# Altium footprint library pcb_comp.PcbLib: 18 footprints (part 1 of 2)
Each footprint in its own frame and in the unit in brackets; x right, y up, seen from the top. Pads: shape width x height; smd on the part's side, far side on the other; paste and mask are expansions set on the pad; w line width, h text height; cw(c..) or ccw(c..) is an arc to the next point about the centre after c.
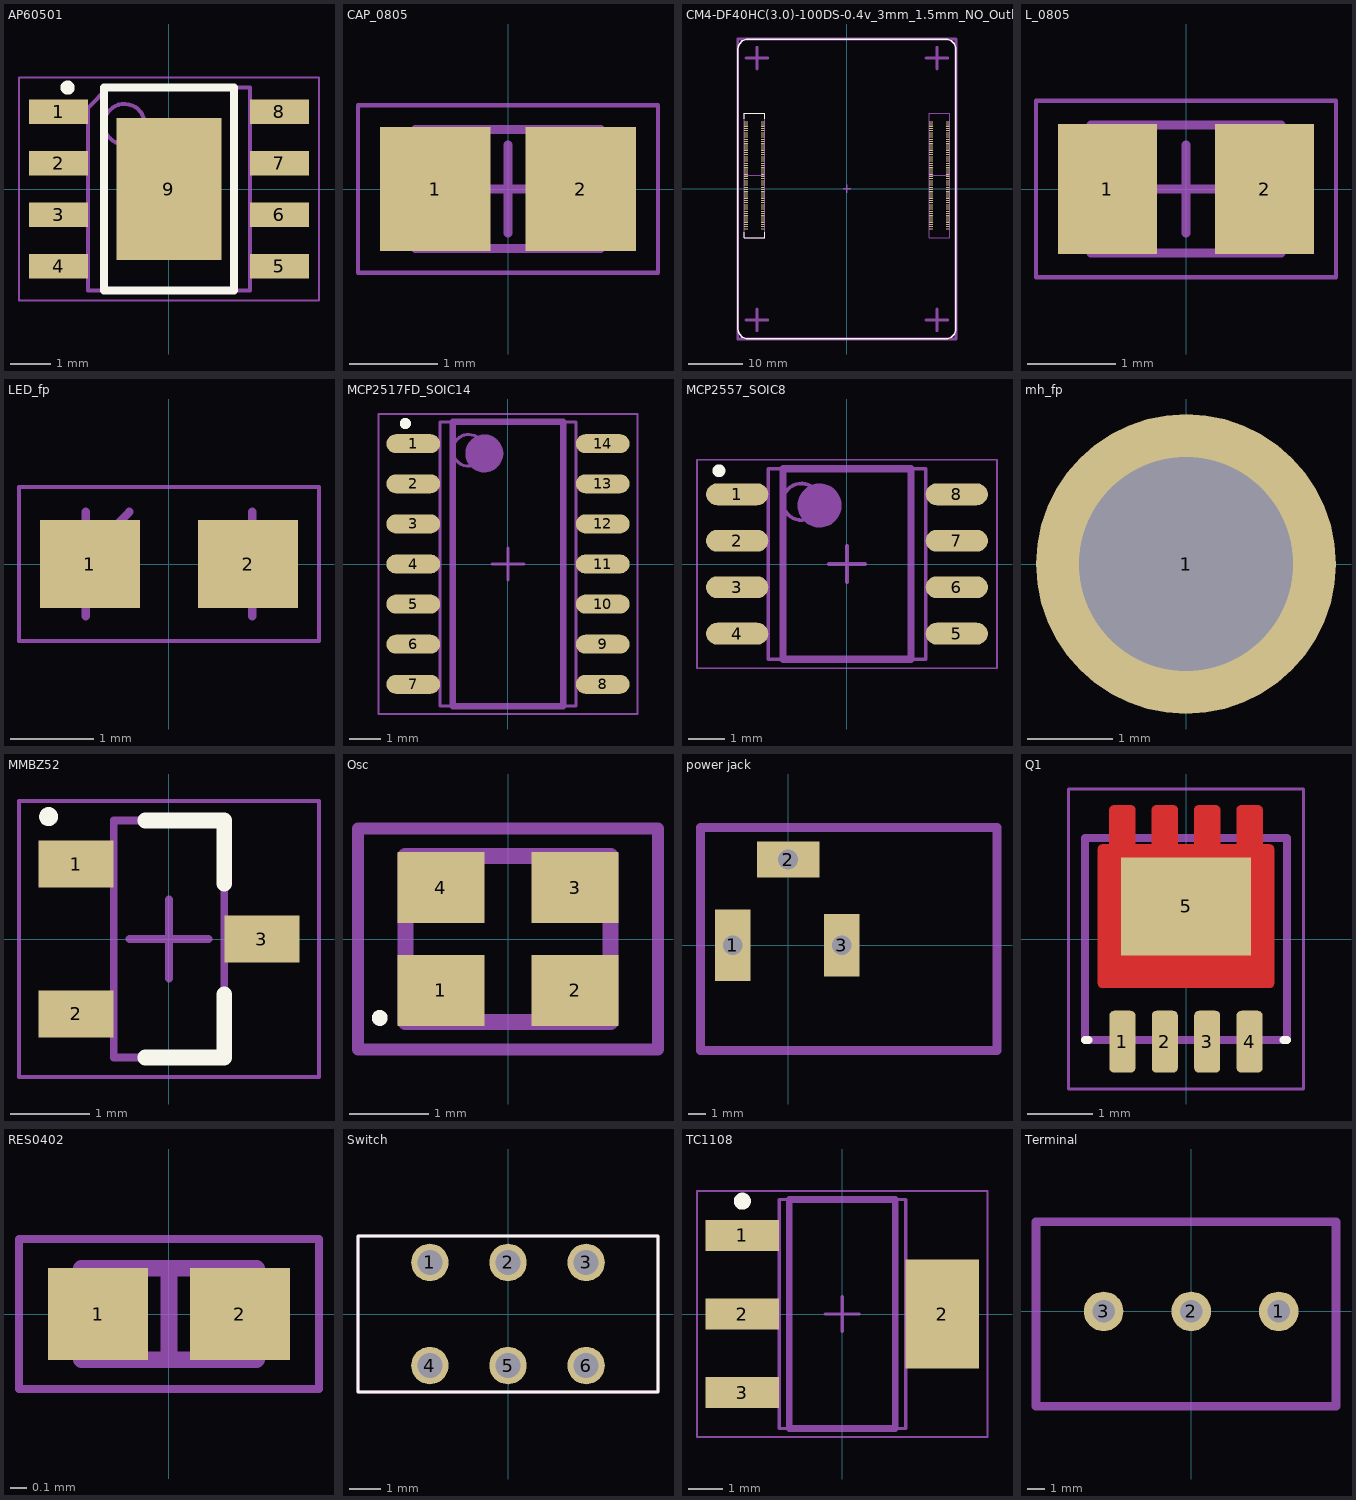
[diagram p0: the footprints below, top view; thin cyan lines are the x and y axes]

## AP60501 [mm]
pads (9):
  rect 1.45x0.6 smd: 1(-2.725,1.905) 2(-2.725,0.635) 3(-2.725,-0.635) 4(-2.725,-1.905) 5(2.725,-1.905) 6(2.725,-0.635) 7(2.725,0.635) 8(2.725,1.905)
  rect 2.6x3.5 smd: 9(0,0)
Top Overlay:
  circle w0.25: c-2.5,2.5 r0.05
  lines w0.2: -1.6,-2.5 1.6,-2.5 1.6,2.5 -1.6,2.5 -1.6,-2.5
Top Component Outline:
  circle w0.1: c-1.1,1.6 r0.5
  lines w0.1: -2,-2.5 2,-2.5 2,2.5 -1.5,2.5 -2,2 -2,-2.5
  text "'.Designator'" at -7.752,-1.087 h1.25
Top Courtyard (Mech15):
  lines w0.05: -3.7,-2.75 3.7,-2.75 3.7,2.75 -3.7,2.75 -3.7,-2.75
  lines w0.1: -0.5,0 0.5,0 ; 0,-0.5 0,0.5
3D body "SO-8L.step": height 1.75, standoff 0, extent -3,-2.5 3,2.5

## CAP_0805 [mm]
height 1.35
pads (2):
  rect 1.25x1.4 smd: 1(-0.825,0) 2(0.825,0)
General Notes:
  lines w0.1: -0.5,0 0.5,0 ; 0,-0.5 0,0.5
Top Assembly:
  lines w0.1: -1.05,-0.675 -1.05,0.675 1.05,0.675 1.05,-0.675 -1.05,-0.675
Top Courtyard (Mech15):
  lines w0.05: -1.7,-0.95 1.7,-0.95 1.7,0.95 -1.7,0.95 -1.7,-0.95
3D body "CAP_0805.step": height 1.35, standoff 0, extent -1.05,-0.675 1.05,0.675

## CM4-DF40HC(3.0)-100DS-0.4v_3mm_1.5mm_NO_Outline-3D [mm] "DF40HC(3.0)-100DS-0.4v by Amornthep Phunsin"
pads (200):
  rect 0.7x0.2 smd: 1(18.5,-7.3) 2(15.42,-7.3) 3(18.5,-6.9) 4(15.42,-6.9) 5(18.5,-6.5) 6(15.42,-6.5) 7(18.5,-6.1) 8(15.42,-6.1) 9(18.5,-5.7) 10(15.42,-5.7) 11(18.5,-5.3) 12(15.42,-5.3) 13(18.5,-4.9) 14(15.42,-4.9) 15(18.5,-4.5) 16(15.42,-4.5) 17(18.5,-4.1) 18(15.42,-4.1) 19(18.5,-3.7) 20(15.42,-3.7) 21(18.5,-3.3) 22(15.42,-3.3) 23(18.5,-2.9) 24(15.42,-2.9) 25(18.5,-2.5) 26(15.42,-2.5) 27(18.5,-2.1) 28(15.42,-2.1) 29(18.5,-1.7) 30(15.42,-1.7) 31(18.5,-1.3) 32(15.42,-1.3) 33(18.5,-0.9) 34(15.42,-0.9) 35(18.5,-0.5) 36(15.42,-0.5) 37(18.5,-0.1) 38(15.42,-0.1) 39(18.5,0.3) 40(15.42,0.3) 41(18.5,0.7) 42(15.42,0.7) 43(18.5,1.1) 44(15.42,1.1) 45(18.5,1.5) 46(15.42,1.5) 47(18.5,1.9) 48(15.42,1.9) 49(18.5,2.3) 50(15.42,2.3) 51(18.5,2.7) 52(15.42,2.7) 53(18.5,3.1) 54(15.42,3.1) 55(18.5,3.5) 56(15.42,3.5) 57(18.5,3.9) 58(15.42,3.9) 59(18.5,4.3) 60(15.42,4.3) 61(18.5,4.7) 62(15.42,4.7) 63(18.5,5.1) 64(15.42,5.1) 65(18.5,5.5) 66(15.42,5.5) 67(18.5,5.9) 68(15.42,5.9) 69(18.5,6.3) 70(15.42,6.3) 71(18.5,6.7) 72(15.42,6.7) 73(18.5,7.1) 74(15.42,7.1) 75(18.5,7.5) 76(15.42,7.5) 77(18.5,7.9) 78(15.42,7.9) 79(18.5,8.3) 80(15.42,8.3) 81(18.5,8.7) 82(15.42,8.7) 83(18.5,9.1) 84(15.42,9.1) 85(18.5,9.5) 86(15.42,9.5) 87(18.5,9.9) 88(15.42,9.9) 89(18.5,10.3) 90(15.42,10.3) 91(18.5,10.7) 92(15.42,10.7) 93(18.5,11.1) 94(15.42,11.1) 95(18.5,11.5) 96(15.42,11.5) 97(18.5,11.9) 98(15.42,11.9) 99(18.5,12.3) 100(15.42,12.3) 101(-15.42,-7.3) 102(-18.5,-7.3) 103(-15.42,-6.9) 104(-18.5,-6.9) 105(-15.42,-6.5) 106(-18.5,-6.5) 107(-15.42,-6.1) 108(-18.5,-6.1) 109(-15.42,-5.7) 110(-18.5,-5.7) 111(-15.42,-5.3) 112(-18.5,-5.3) 113(-15.42,-4.9) 114(-18.5,-4.9) 115(-15.42,-4.5) 116(-18.5,-4.5) 117(-15.42,-4.1) 118(-18.5,-4.1) 119(-15.42,-3.7) 120(-18.5,-3.7) 121(-15.42,-3.3) 122(-18.5,-3.3) 123(-15.42,-2.9) 124(-18.5,-2.9) 125(-15.42,-2.5) 126(-18.5,-2.5) 127(-15.42,-2.1) 128(-18.5,-2.1) 129(-15.42,-1.7) 130(-18.5,-1.7) 131(-15.42,-1.3) 132(-18.5,-1.3) 133(-15.42,-0.9) 134(-18.5,-0.9) 135(-15.42,-0.5) 136(-18.5,-0.5) 137(-15.42,-0.1) 138(-18.5,-0.1) 139(-15.42,0.3) 140(-18.5,0.3) 141(-15.42,0.7) 142(-18.5,0.7) 143(-15.42,1.1) 144(-18.5,1.1) 145(-15.42,1.5) 146(-18.5,1.5) 147(-15.42,1.9) 148(-18.5,1.9) 149(-15.42,2.3) 150(-18.5,2.3) 151(-15.42,2.7) 152(-18.5,2.7) 153(-15.42,3.1) 154(-18.5,3.1) 155(-15.42,3.5) 156(-18.5,3.5) 157(-15.42,3.9) 158(-18.5,3.9) 159(-15.42,4.3) 160(-18.5,4.3) 161(-15.42,4.7) 162(-18.5,4.7) 163(-15.42,5.1) 164(-18.5,5.1) 165(-15.42,5.5) 166(-18.5,5.5) 167(-15.42,5.9) 168(-18.5,5.9) 169(-15.42,6.3) 170(-18.5,6.3) 171(-15.42,6.7) 172(-18.5,6.7) 173(-15.42,7.1) 174(-18.5,7.1) 175(-15.42,7.5) 176(-18.5,7.5) 177(-15.42,7.9) 178(-18.5,7.9) 179(-15.42,8.3) 180(-18.5,8.3) 181(-15.42,8.7) 182(-18.5,8.7) 183(-15.42,9.1) 184(-18.5,9.1) 185(-15.42,9.5) 186(-18.5,9.5) 187(-15.42,9.9) 188(-18.5,9.9) 189(-15.42,10.3) 190(-18.5,10.3) 191(-15.42,10.7) 192(-18.5,10.7) 193(-15.42,11.1) 194(-18.5,11.1) 195(-15.42,11.5) 196(-18.5,11.5) 197(-15.42,11.9) 198(-18.5,11.9) 199(-15.42,12.3) 200(-18.5,12.3)
Top Overlay:
  lines w0.12: -18.85,-7.9 -18.85,-8.9 -15.07,-8.9 -15.07,-7.9 ; -18.85,12.9 -18.85,13.9 -15.07,13.9 -15.07,12.9 ; 20.042,13.5 20.042,14.5
  lines w0.254: -20.008,-25.5 ccw(c-18.008,-25.5) -18.008,-27.5 17.992,-27.5 ccw(c17.992,-25.5) 19.992,-25.5 19.992,25.5 ccw(c17.992,25.5) 17.992,27.5 -18.008,27.5 ccw(c-18.008,25.5) -20.008,25.5 -20.008,-25.5
Mechanical 4:
  lines w0.12: -18.85,-8.9 -15.07,-8.9 ; -18.85,-8.9 -18.85,13.9 ; -18.85,-8.9 -15.07,-8.9 ; -18.85,-8.9 -18.85,13.9 ; -18.85,13.9 -15.07,13.9 ; -18.85,13.9 -15.07,13.9 ; -15.07,-8.9 -15.07,13.9 ; -15.07,-8.9 -15.07,13.9 ; 15.07,-8.9 15.07,13.9 ; 15.07,-8.9 18.85,-8.9 ; 15.07,-8.9 15.07,13.9 ; 15.07,-8.9 18.85,-8.9 ; 15.07,13.9 18.85,13.9 ; 15.07,13.9 18.85,13.9 ; 18.85,-8.9 18.85,13.9 ; 18.85,-8.9 18.85,13.9 ; -18.83,2.5 -15.05,2.5 -18.83,2.5 ; 15.07,2.5 18.85,2.5 15.07,2.5
  lines w0.254: -0.7,0 0.7,0 -0.7,0 ; 0,-0.7 0,0.8 0,-0.7
  lines w0.5: -18.5,-24 -16.5,-24 ; -18.5,24 -16.5,24 ; -16.5,-26 -16.5,-24 ; -16.5,-22 -16.5,-24 ; -16.5,22 -16.5,24 ; -16.5,26 -16.5,24 ; -14.5,-24 -16.5,-24 ; -14.5,24 -16.5,24 ; 14.5,-24 16.5,-24 ; 14.5,24 16.5,24 ; 16.5,-26 16.5,-24 ; 16.5,-22 16.5,-24 ; 16.5,22 16.5,24 ; 16.5,26 16.5,24 ; 18.5,-24 16.5,-24 ; 18.5,24 16.5,24
Top Courtyard (Mech15):
  lines w0.5: -20,-27.5 -20,27.5 20,27.5 20,-27.5 -20,-27.5
3D body "DF40HC(3.0)-100DS-0.4V.stp": height 2.9, standoff 0, extent -18.69,-8.785 -15.31,13.815
3D body "DF40HC(3.0)-100DS-0.4V.stp": height 2.9, standoff 0, extent 15.31,-8.785 18.69,13.815

## L_0805 [mm]
height 1.1
pads (2):
  rect 1.12x1.47 smd: 1(-0.89,0) 2(0.89,0)
General Notes:
  lines w0.1: -0.5,0 0.5,0 ; 0,-0.5 0,0.5
Top Assembly:
  lines w0.1: -1.075,-0.725 -1.075,0.725 1.075,0.725 1.075,-0.725 -1.075,-0.725
Top Courtyard (Mech15):
  lines w0.05: -1.7,-1 -1.7,1 1.7,1 1.7,-1 -1.7,-1
3D body "L_0805.step": height 1.1, standoff 0, extent -1.075,-0.725 1.075,0.725

## LED_fp [mm] "https://ro.farnell.com/wurth-elektronik/150080gs75000/led-0805-green-450mcd-520nm/dp/2322076?gross_price=true&CMP=KNC-GRO-GEN-SHOPPING-PMax_Test_840_MediumMargin&mckv=_dc%7Cpcrid%7C%7Cplid%7C%7Ckword%7C%7Cmatch%7C%7Cslid%7C%7Cproduct%7C2322076%7Cpgrid%7C%7Cptaid%7C%7C&gad_source=1&gclid=Cj0KCQjwjLGyBhCYARIsAPqTz18Amj4u5qMw452dzp4QFbvRWjaA25yZdq1iP5S9VaglDibMucql-VwaApB3EALw_wcB"
pads (2):
  rect 1.2x1.05 smd: 1(-0.95,0) 2(0.95,0)
Top Component Outline:
  lines w0.1: -1,-0.625 -1,0.625 ; -1,0.1 -0.475,0.625 ; 1,-0.625 1,0.625
Top Courtyard (Mech15):
  lines w0.05: -1.8,-0.925 -1.8,0.925 1.8,0.925 1.8,-0.925 -1.8,-0.925
3D body "150080GS75000.stp": height 0.7, standoff 0, extent -1,-0.625 1,0.625

## MCP2517FD_SOIC14 [mm] "SOIC, 14-Leads, Body 8.65x3.90mm, Pitch 1.27mm, IPC Medium Density"
height 1.75
pads (14):
  oval 1.7x0.6 smd: 1(-3,3.81) 2(-3,2.54) 3(-3,1.27) 4(-3,0) 5(-3,-1.27) 6(-3,-2.54) 7(-3,-3.81) 8(3,-3.81) 9(3,-2.54) 10(3,-1.27) 11(3,0) 12(3,1.27) 13(3,2.54) 14(3,3.81)
Top Overlay:
  circle w0.25: c-3.25,4.45 r0.05
General Notes:
  circle w0.6: c-0.75,3.5 r0.3
  lines w0.1: -0.5,0 0.5,0 ; 0,-0.5 0,0.5
  lines w0.2: -1.75,-4.5 -1.75,4.5 1.75,4.5 1.75,-4.5 -1.75,-4.5
Top Assembly:
  circle w0.1: c-1.25,3.6 r0.5
  lines w0.1: -2.15,-4.5 2.15,-4.5 2.15,4.5 -2.15,4.5 -2.15,-4.5
Top Courtyard (Mech15):
  lines w0.05: -4.1,-4.75 4.1,-4.75 4.1,4.75 -4.1,4.75 -4.1,-4.75
3D body "MCP2517FD_SOIC14.step": height 1.75, standoff 0.02, extent -2.96,-4.5 2.96,4.5

## MCP2557_SOIC8 [mm]
height 1.75
pads (8):
  oval 1.7x0.6 smd: 1(-3,1.905) 2(-3,0.635) 3(-3,-0.635) 4(-3,-1.905) 5(3,-1.905) 6(3,-0.635) 7(3,0.635) 8(3,1.905)
Top Overlay:
  circle w0.25: c-3.5,2.55 r0.05
General Notes:
  circle w0.6: c-0.75,1.6 r0.3
  lines w0.1: -0.5,0 0.5,0 ; 0,-0.5 0,0.5
  lines w0.2: -1.75,-2.6 -1.75,2.6 1.75,2.6 1.75,-2.6 -1.75,-2.6
Top Assembly:
  circle w0.1: c-1.25,1.7 r0.5
  lines w0.1: -2.15,-2.6 2.15,-2.6 2.15,2.6 -2.15,2.6 -2.15,-2.6
Top Courtyard (Mech15):
  lines w0.05: -4.1,-2.85 4.1,-2.85 4.1,2.85 -4.1,2.85 -4.1,-2.85
3D body "MCP2557_SOIC8.step": height 1.75, standoff 0, extent -3.25,-2.6 3.25,2.6

## mh_fp [mm]
pads (1):
  round 3.5 hole 2.5: 1(0,0)

## MMBZ52 [mm]
height 1.1
pads (3):
  rect 0.95x0.6 smd: 1(-1.175,0.95) 2(-1.175,-0.95) 3(1.175,0)
Top Overlay:
  circle w0.14: c-1.525,1.55 r0.05
  lines w0.2: -0.3,-1.5 0.7,-1.5 0.7,-0.7 ; -0.3,1.5 0.7,1.5 0.7,0.7
General Notes:
  lines w0.1: -0.5,0 0.5,0 ; 0,-0.5 0,0.5
Top Assembly:
  lines w0.1: -0.7,-1.5 -0.7,1.5 0.7,1.5 0.7,-1.5 -0.7,-1.5
Top Courtyard (Mech15):
  lines w0.05: -1.9,-1.75 -1.9,1.75 1.9,1.75 1.9,-1.75 -1.9,-1.75
3D body "MMBZ52.step": height 1.1, standoff 0, extent -1.3,-1.5 1.3,1.5

## Osc [mm]
pads (4):
  rect 1.1x0.9 smd: 1(-0.85,-0.65) 2(0.85,-0.65) 3(0.85,0.65) 4(-0.85,0.65)
Top Overlay:
  circle w0.1: c-1.625,-1 r0.05
General Notes:
  lines w0.2: -1.3,-1.05 -1.3,1.05 1.3,1.05 1.3,-1.05 -1.3,-1.05
Top Courtyard (Mech15):
  lines w0.15: -1.9,-1.4 -1.9,1.4 1.9,1.4 1.9,-1.4 -1.9,-1.4
3D body "SG-210STF 40.0000ML3 (1).STEP": height 0.9, standoff 0, extent -1.25,-1 1.25,1

## power jack [mm]
pads (3):
  rect 2x4 hole 1.1 square: 1(-3.1,0)
  rect 3.5x2 hole 1.1 square: 2(0,4.8)
  rect 2x3.5 hole 1.1 square: 3(3,0)
Top Courtyard (Mech15):
  lines w0.5: -4.9,-5.9 11.7,-5.9 11.7,6.6 -4.9,6.6 -4.9,-5.9
3D body "DC_Power_Jack_PCB_Mounted_2.1mm.step": height 11, standoff -4.1, extent -3.55,-4.575 10.65,4.875

## Q1 [mm]
pads (6):
  rrect37% 0.4x0.95 smd: 1(-0.975,-1.575) 2(-0.325,-1.575) 3(0.325,-1.575) 4(0.975,-1.575)
  rect 2x1.5 smd: 5(0,0.5)
  rect 0.1x0.1 smd paste-1 mask+0: 5_8(0,0)
Top Layer:
  region: 356 vertices and 0 holes, not listed, extent -1.35,-0.75 1.35,2.05
Top Overlay:
  lines w0.127: -1.55,-1.55 -1.495,-1.55 ; 1.495,-1.55 1.55,-1.55
Top Paste:
  drawing of 8 lines, arcs and shapes, not listed
Top Solder:
  drawing of 1 lines, arcs and shapes, not listed
Top Component Outline:
  lines w0.127: -1.55,-1.55 -1.55,1.55 1.55,1.55 1.55,-1.55 -1.55,-1.55
Top Courtyard (Mech15):
  lines w0.05: -1.8,-2.3 1.8,-2.3 1.8,2.3 -1.8,2.3 -1.8,-2.3
3D body "DMP3013SFV-7--3DModel-STEP-510211.STEP": height -0.38, standoff -1.23, extent -1.65,-1.65 1.65,1.65

## RES0402 [mm] "Chip Resistor, 2-Leads, Body 1.00x0.50mm, IPC Medium Density"
height 0.4
pads (2):
  rect 0.6x0.55 smd: 1(-0.425,0) 2(0.425,0)
General Notes:
  lines w0.1: 0,-0.275 0,0.275
Top Assembly:
  lines w0.1: -0.525,-0.275 0.525,-0.275 0.525,0.275 -0.525,0.275 -0.525,-0.275
Top Courtyard (Mech15):
  lines w0.05: -0.9,-0.45 -0.9,0.45 0.9,0.45 0.9,-0.45 -0.9,-0.45
3D body "RES0402.step": height 0.4, standoff 0, extent -0.525,-0.275 0.525,0.275

## Switch [mm]
pads (6):
  round 1.2 hole 0.8: 1(-2.5,1.65) 2(0,1.65) 3(2.5,1.65) 4(-2.5,-1.65) 5(0,-1.65) 6(2.5,-1.65)
Top Overlay:
  lines w0.1: -4.8,-2.5 4.8,-2.5 4.8,2.5 -4.8,2.5 -4.8,-2.5
Top Courtyard (Mech15):
  lines w0.1: -4.8,-2.5 4.8,-2.5 4.8,2.5 -4.8,2.5 -4.8,-2.5
3D body "Switch.stp": height 5.6, standoff -3, extent -4.5,-2.049 4.5,2.049

## TC1108 [mm] "SOT223, 4-Leads, Body 6.50x7.00mm (avg), Pitch 2.30mm, IPC Medium Density"
height 1.8
pads (4):
  rect 2.15x0.9 smd: 1(-2.925,2.3) 2(-2.925,0) 3(-2.925,-2.3)
  rect 2.15x3.2 smd: 2(2.925,0)
Top Overlay:
  circle w0.25: c-2.925,3.3 r0.125
General Notes:
  lines w0.1: -0.5,0 0.5,0 ; 0,-0.5 0,0.5
  lines w0.2: -1.55,-3.35 -1.55,3.35 1.55,3.35 1.55,-3.35 -1.55,-3.35
Top Assembly:
  lines w0.1: -1.85,-3.35 -1.85,3.35 1.85,3.35 1.85,-3.35 -1.85,-3.35
Top Courtyard (Mech15):
  lines w0.05: -4.25,-3.6 -4.25,3.6 4.25,3.6 4.25,-3.6 -4.25,-3.6
3D body "TC1108.step": height 1.8, standoff 0, extent -3.5,-3.35 3.5,3.35

## Terminal [mm]
pads (3):
  round 2.3 hole 1.3: 1(5.08,0) 2(0,0) 3(-5.08,0)
Top Courtyard (Mech15):
  lines w0.5: -9,5.1 -9,-5.5 8.4,-5.5 8.4,5.2 -9,5.2
3D body "DG125-5.0-03P-14-00AH.STEP": height 13.6, standoff -3.5, extent -8.06,-4.525 7.51,4.475